# Altium footprint library PCB Library.PcbLib: 1 footprints
Each footprint in its own frame and in the unit in brackets; x right, y up, seen from the top. Pads: shape width x height; smd on the part's side, far side on the other; paste and mask are expansions set on the pad; w line width, h text height; cw(c..) or ccw(c..) is an arc to the next point about the centre after c.
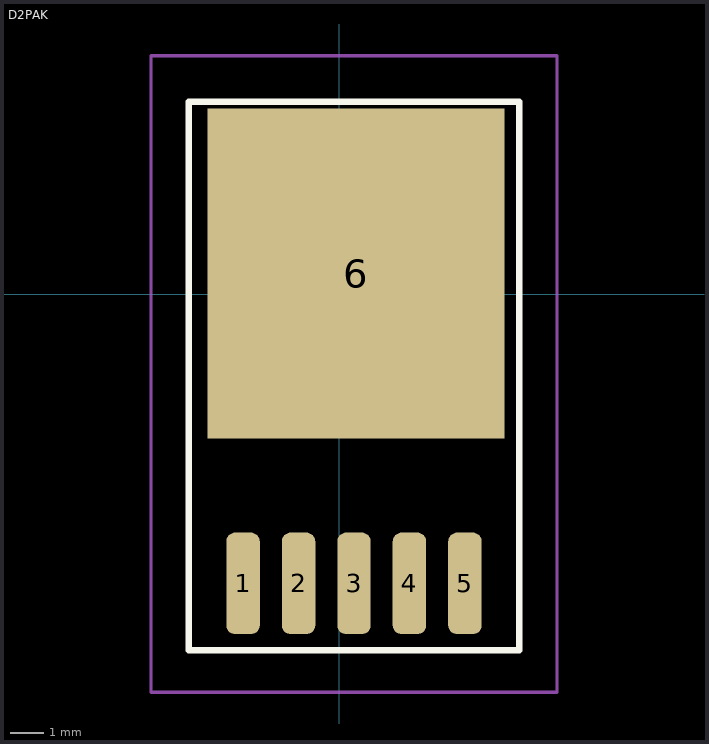
[diagram p0: the footprint, top view; thin cyan lines are the x and y axes]

## D2PAK [mil]
pads (6):
  rrect50% 40x121.06 smd: 1(-115,-345) 2(-48.75,-345) 3(17.5,-345) 4(83.75,-345) 5(150,-345)
  rect 354.33x393.7 smd: 6(20,25)
Top Overlay:
  lines w7.87: -180,-425 215,-425 215,230 -180,230 -180,-425
Mechanical 15:
  lines w3.94: -45,0 -25,0 0,0 ; 0,-25 0,-50 0,0 ; 0,50 0,25 0,0 ; 25,0 50,0 0,0 ; -225,-475 260,-475 260,285 -225,285 -225,-475
3D body "TO263-5-1.stp": height 165.95, standoff 0, extent -175,-380 211.67,194.88